# Altium footprint library CMod5_1.PcbLib: 117 footprints (part 7 of 8)
Each footprint in its own frame and in the unit in brackets; x right, y up, seen from the top. Pads: shape width x height; smd on the part's side, far side on the other; paste and mask are expansions set on the pad; w line width, h text height; cw(c..) or ccw(c..) is an arc to the next point about the centre after c.
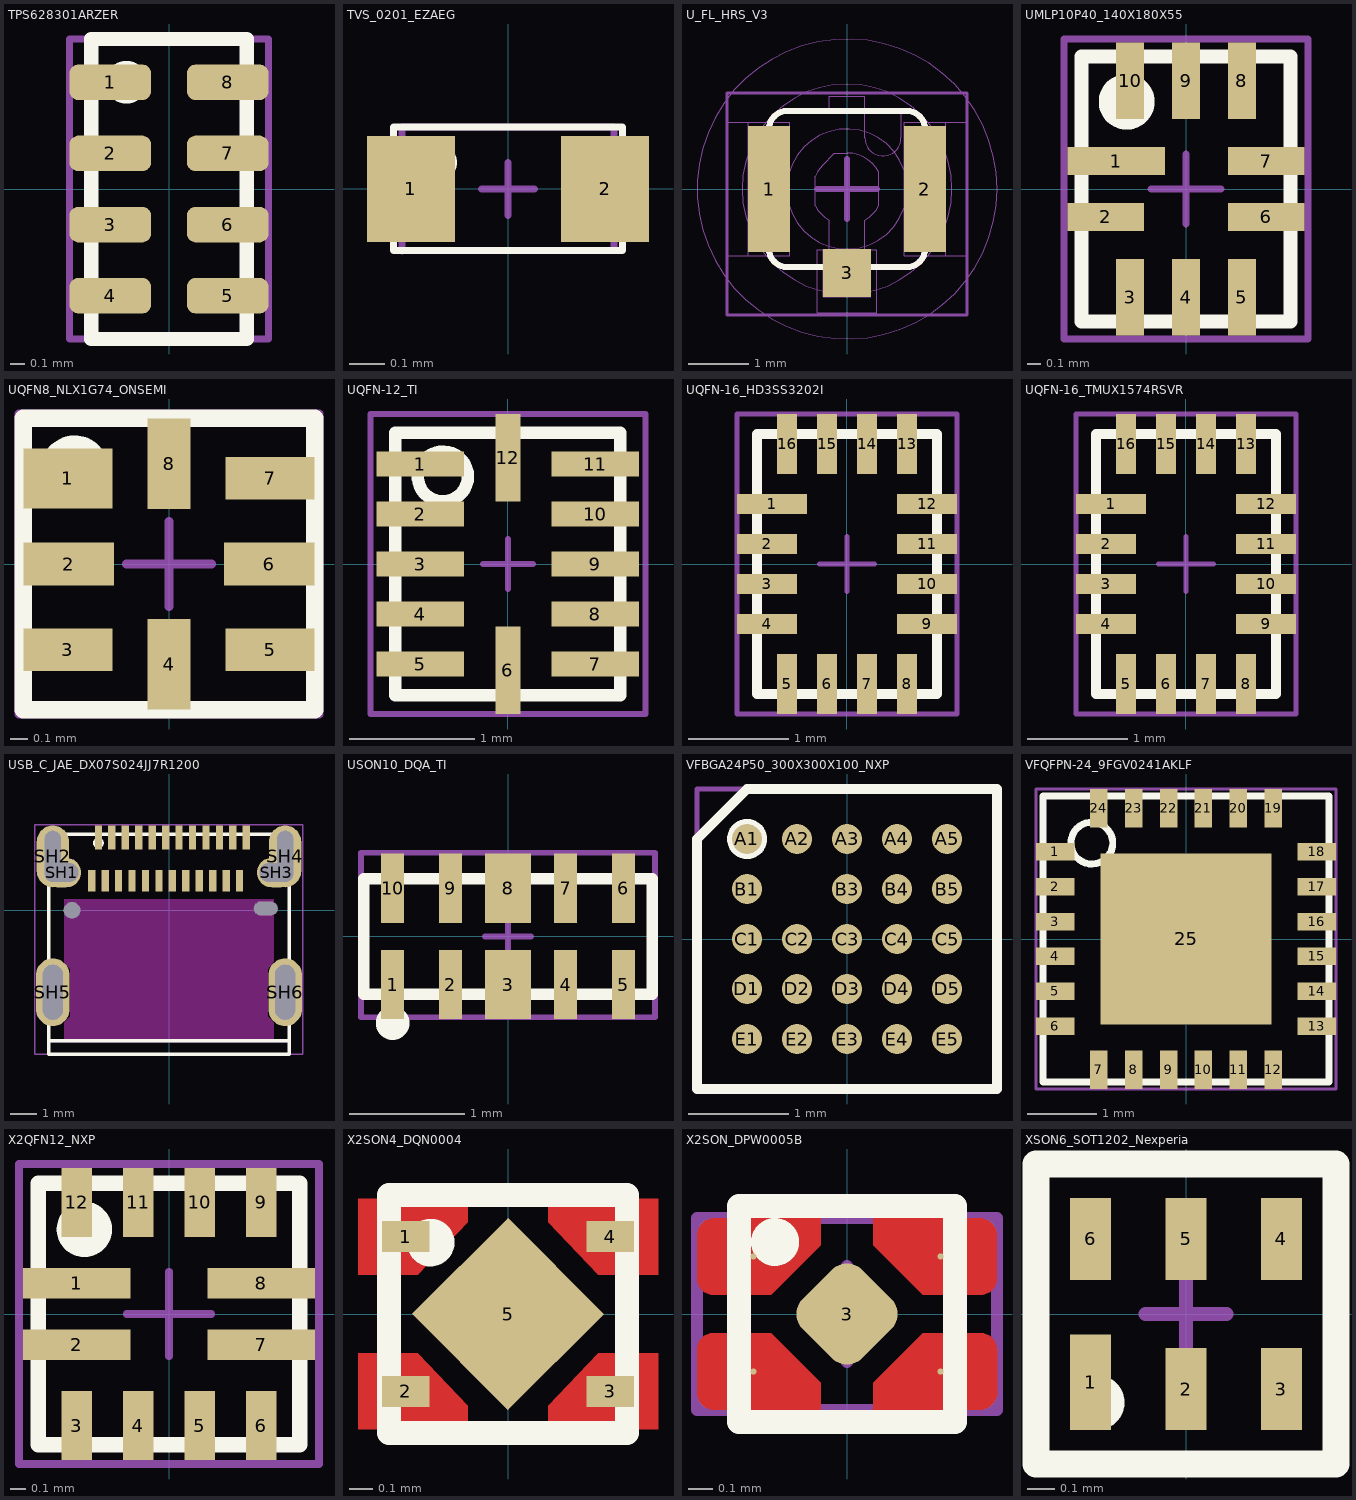
[diagram p6: the footprints below, top view; thin cyan lines are the x and y axes]

## TPS628301ARZER [mm] "WQFN-HR, 1.1x2.1x0.8mm"
height 0.8
pads (8):
  rrect50% 0.575x0.25 smd paste+0 mask+0.05: 1(-0.413,0.75) 2(-0.413,0.25) 3(-0.413,-0.25) 4(-0.413,-0.75) 5(0.413,-0.75) 6(0.413,-0.25) 7(0.413,0.25) 8(0.413,0.75)
Top Overlay:
  circle w0.15: c-0.3,0.75 r0.075
  lines w0.1: -0.546,-1.054 0.546,-1.054 0.546,1.054 -0.546,1.054 -0.546,-1.054
Top Courtyard:
  lines w0.05: -0.7,-1.054 -0.7,1.054 0.7,1.054 0.7,-1.054 -0.7,-1.054
3D body "WQFN-HR8_RZE_TEX.step": height 0.81, standoff 0, extent -0.546,-1.054 0.546,1.054

## TVS_0201_EZAEG [mm] "TVS 0201 0.04pF Panasonic EZAEG1A"
height 0.33
pads (2):
  rect 0.25x0.3 smd mask+0.05: 1(-0.275,0) 2(0.275,0)
Top Overlay:
  circle w0.1: c-0.197,0.075 r0.003
  lines w0.02: -0.325,-0.175 -0.325,0.175 0.325,0.175 0.325,-0.175 -0.325,-0.175
Top Courtyard:
  lines w0.02: -0.075,0 0.075,0 ; 0,-0.075 0,0.075 ; -0.3,-0.175 -0.3,0.175 0.3,0.175 0.3,-0.175 -0.3,-0.175
Top Designator:
3D body: height 0.26, standoff 0, extent -0.325,-0.175 0.325,0.175

## U_FL_HRS_V3 [mm] "SMD, 3-Leads, Body 2.6x2.6mm"
height 1.25
pads (3):
  rect 0.7x2.1 smd mask+0.07: 1(-1.3,0)
  rect 0.7x2.1 smd: 2(1.3,0)
  rect 0.8x0.8 smd: 3(0,-1.4)
Top Overlay:
  lines w0.1: -1.3,-1 ccw(c-1,-1) -1,-1.3 1,-1.3 ccw(c1,-1) 1.3,-1 ; -1.3,0.95 -1.55,0.95 -1.55,-0.95 -1.3,-0.95 -1.3,1 cw(c-1,1) -1,1.3 1,1.3 cw(c1,1) 1.3,1 1.3,-0.95 1.55,-0.95 1.55,0.95 1.3,0.95 ; -0.3,-1.6 -0.3,-1.3 0.3,-1.3 0.3,-1.6 -0.3,-1.6
Mechanical 4:
  circle w0.02: c0,0 r1
  circle w0.02: c0,0 r1.75
  circle w0.01: c0,0 r2.5
  lines w0.02: -0.3,1.3 -0.3,1.55 0.3,1.55 0.3,1.3 ; -0.1,0 0.1,0 ; 0,-0.1 0,0.1 ; -1.3,-1 ccw(c-1,-1) -1,-1.3 ; -1.3,-1 ccw(c-1,-1) -1,-1.3 ; -1.3,-1 -1.3,-0.9 ; -1.3,-1 -1.3,-0.9 ; -1.3,-0.9 -1.2,-0.9 ccw(c-1.2,-0.75) -1.05,-0.75 -1.05,0.75 ccw(c-1.2,0.75) -1.2,0.9 -1.3,0.9 ; -1.3,-0.9 -1.5,-0.9 -1.5,0.9 -1.3,0.9 ; -1.3,0.9 -1.3,1 ; -1.3,0.9 -1.3,1 ; -1.3,1 cw(c-1,1) -1,1.3 ; -1.3,1 cw(c-1,1) -1,1.3 ; -1,-1.3 -0.3,-1.3 ; -1,-1.3 -0.3,-1.3 ; -1,1.3 0.3,1.3 ; -1,1.3 1,1.3 ; -0.95,-1.11 -0.95,1.11 ; -0.95,-1.11 -0.95,1.11 ; -0.95,-1.11 -1.65,-1.11 -1.65,1.1 -0.95,1.11 ; -0.95,-1.11 -2,-1.11 -2,1.11 -0.95,1.11 ; -0.3,-1.3 -0.3,-0.52 cw(c0,0) -0.53,-0.281 -0.53,0.21 cw(c0,0) -0.407,0.399 -0.21,0.6 0,0.6 cw(c0,0) 0.53,0.281 0.53,-0.281 cw(c0,0) 0.3,-0.52 0.3,-1.3 ; -0.3,-1.3 -0.3,-1.55 0.3,-1.55 0.3,-1.3 ; 0.3,-1.3 1,-1.3 ; 0.3,-1.3 1,-1.3 ; 0.3,1.3 0.3,0.85 ccw(c0.6,0.85) 0.9,0.85 0.9,1.3 1,1.3 ; 0.95,-1.11 2,-1.11 2,1.11 0.95,1.11 ; 0.95,-1.11 1.65,-1.11 1.65,1.1 0.95,1.11 ; 0.95,-1.11 0.95,1.11 ; 0.95,-1.11 0.95,1.11 ; 1,-1.3 ccw(c1,-1) 1.3,-1 ; 1,-1.3 ccw(c1,-1) 1.3,-1 ; 1,1.3 cw(c1,1) 1.3,1 ; 1,1.3 cw(c1,1) 1.3,1 ; 1.3,-1 1.3,-0.9 ; 1.3,-1 1.3,-0.9 ; 1.3,-0.9 1.2,-0.9 cw(c1.2,-0.75) 1.05,-0.75 1.05,0.75 cw(c1.2,0.75) 1.2,0.9 1.3,0.9 ; 1.3,-0.9 1.5,-0.9 1.5,0.9 1.3,0.9 ; 1.3,0.9 1.3,1 ; 1.3,0.9 1.3,1 ; -0.5,-2.06 0.5,-2.06 0.5,-1.01 -0.5,-1.01 -0.5,-2.06 ; -0.4,-1.8 0.4,-1.8 0.4,-1.01 -0.4,-1.01 -0.4,-1.8
  text "Open as many layers as possible." at -0.7,0.219 h0.1
Top Courtyard:
  lines w0.05: -2,-2.1 2,-2.1 2,1.6 -2,1.6 -2,-2.1
  lines w0.1: -0.5,0 0.5,0 ; 0,-0.5 0,0.5
3D body "U_FL-R-SMT-1.stp": height 1.3, standoff 0.05, extent -1.499,-1.55 1.501,1.55

## UMLP10P40_140X180X55 [mm] "UMLP 10 pin pitch 0.4"
height 0.55
pads (10):
  rect 0.7x0.2 smd paste+0 mask+0.05: 1(-0.5,0.2)
  rect 0.55x0.2 smd paste+0 mask+0.05: 2(-0.575,-0.2) 6(0.575,-0.2) 7(0.575,0.2)
  rect 0.2x0.55 smd paste+0 mask+0.05: 3(-0.4,-0.775) 4(0,-0.775) 5(0.4,-0.775) 8(0.4,0.775) 9(0,0.775) 10(-0.4,0.775)
Top Overlay:
  circle w0.2: c-0.425,0.625 r0.1
  lines w0.1: -0.75,-0.95 -0.75,0.95 0.75,0.95 0.75,-0.95 -0.75,-0.95
Top Courtyard:
  lines w0.05: -0.25,0 0.25,0 ; 0,-0.25 0,0.25 ; -0.875,-1.075 -0.875,1.075 0.875,1.075 0.875,-1.075 -0.875,-1.075
3D body "FSUSB42UMX.stp": height 0.55, standoff 0, extent -0.75,-0.95 0.75,0.95
3D body: height 0.51, standoff 0.4, extent -0.65,0.55 -0.35,0.85

## UQFN8_NLX1G74_ONSEMI [mm] "UQFN8"
height 0.6
pads (8):
  rect 0.52x0.35 smd paste+0 mask+0.05: 1(-0.59,0.5)
  rect 0.53x0.25 smd paste+0 mask+0.05: 2(-0.585,0) 6(0.585,0)
  rect 0.52x0.25 smd paste+0 mask+0.05: 3(-0.59,-0.5) 5(0.59,-0.5) 7(0.59,0.5)
  rect 0.25x0.53 smd paste+0 mask+0.05: 4(0,-0.585) 8(0,0.585)
Top Overlay:
  circle w0.2: c-0.55,0.55 r0.1
  lines w0.1: -0.85,-0.85 -0.85,0.85 0.85,0.85 0.85,-0.85 -0.85,-0.85
Top Courtyard:
  lines w0.05: -0.25,0 0.25,0 ; 0,-0.25 0,0.25 ; -0.875,-0.875 0.875,-0.875 0.875,0.875 -0.875,0.875 -0.875,-0.875
3D body "NLX1G74MUTCG.stp": height 0.7, standoff 0, extent -0.8,-0.8 0.8,0.8
3D body: height 0.71, standoff 0.6, extent -0.625,0.3 -0.325,0.6

## UQFN-12_TI [mm] "UQFN-12 from Texas Instruments"
height 0.55
pads (12):
  rect 0.7x0.2 smd paste+0 mask+0.05: 1(-0.7,0.8) 2(-0.7,0.4) 3(-0.7,0) 4(-0.7,-0.4) 5(-0.7,-0.8) 7(0.7,-0.8) 8(0.7,-0.4) 9(0.7,0) 10(0.7,0.4) 11(0.7,0.8)
  rect 0.2x0.7 smd paste+0 mask+0.05: 6(0,-0.85) 12(0,0.85)
Top Overlay:
  circle w0.1: c-0.521,0.7 r0.2
  lines w0.1: -0.9,-1.05 0.9,-1.05 0.9,1.05 -0.9,1.05 -0.9,-1.05
Top Courtyard:
  lines w0.05: -0.2,0 0.2,0 ; 0,-0.2 0,0.2 ; -1.1,-1.2 1.1,-1.2 1.1,1.2 -1.1,1.2 -1.1,-1.2
Top Designator:
3D body "TXB0104RUTR--3DModel-STEP-56544.STEP": height 0.55, standoff 0, extent -0.85,-1 0.85,1

## UQFN-16_HD3SS3202I [mm] "UQFN-16"
height 0.55
pads (16):
  rect 0.7x0.2 smd paste+0 mask+0.05: 1(-0.75,0.6)
  rect 0.6x0.2 smd paste+0 mask+0.05: 2(-0.8,0.2) 3(-0.8,-0.2) 4(-0.8,-0.6) 9(0.8,-0.6) 10(0.8,-0.2) 11(0.8,0.2) 12(0.8,0.6)
  rect 0.2x0.6 smd paste+0 mask+0.05: 5(-0.6,-1.2) 6(-0.2,-1.2) 7(0.2,-1.2) 8(0.6,-1.2) 13(0.6,1.2) 14(0.2,1.2) 15(-0.2,1.2) 16(-0.6,1.2)
Top Overlay:
  lines w0.1: -0.9,-1.3 -0.9,1.3 0.9,1.3 0.9,-1.3 -0.9,-1.3 ; -0.8,0.6 cw(c-0.75,0.6) -0.7,0.6 cw(c-0.75,0.6) -0.8,0.6
Top Courtyard:
  lines w0.05: -0.275,0 0.275,0 ; 0,-0.275 0,0.275 ; -1.1,-1.5 1.1,-1.5 1.1,1.5 -1.1,1.5 -1.1,-1.5
3D body "HD3SS3202IRSVR.stp": height 0.65, standoff 0, extent -0.9,-1.3 0.9,1.3
3D body: height 0.66, standoff 0.56, extent -0.85,0.5 -0.65,0.7

## UQFN-16_TMUX1574RSVR [mm] "UQFN-16"
height 0.55
pads (16):
  rect 0.7x0.2 smd paste+0 mask+0.05: 1(-0.75,0.6)
  rect 0.6x0.2 smd paste+0 mask+0.05: 2(-0.8,0.2) 3(-0.8,-0.2) 4(-0.8,-0.6) 9(0.8,-0.6) 10(0.8,-0.2) 11(0.8,0.2) 12(0.8,0.6)
  rect 0.2x0.6 smd paste+0 mask+0.05: 5(-0.6,-1.2) 6(-0.2,-1.2) 7(0.2,-1.2) 8(0.6,-1.2) 13(0.6,1.2) 14(0.2,1.2) 15(-0.2,1.2) 16(-0.6,1.2)
Top Overlay:
  lines w0.1: -0.9,-1.3 0.9,-1.3 0.9,1.3 -0.9,1.3 -0.9,-1.3 ; -0.8,0.6 ccw(c-0.75,0.6) -0.7,0.6 ccw(c-0.75,0.6) -0.8,0.6
Top Courtyard:
  lines w0.05: -0.275,0 0.275,0 ; 0,-0.275 0,0.275 ; -1.1,-1.5 -1.1,1.5 1.1,1.5 1.1,-1.5 -1.1,-1.5
3D body: height 0.66, standoff 0.56, extent -0.85,0.5 -0.65,0.7
3D body "HD3SS3202IRSVR.stp": height 0.65, standoff 0, extent -0.9,-1.3 0.9,1.3

## USB_C_JAE_DX07S024JJ7R1200 [mm] "USB-C (USB TYPE-C) USB 3.2 Gen 2 (USB 3.1 Gen 2, Superspeed + (USB 3.1)) Receptacle Connector 24 Position Surface Mount, Right Angle; Through Hole"
height 3.14
pads (32):
  rect 0.27x0.9 smd paste+0 mask+0.05: A1(-2.625,2.7) A2(-2.125,2.7) A3(-1.625,2.7) A4(-1.125,2.7) A5(-0.625,2.7) A6(-0.125,2.7) A7(0.375,2.7) A8(0.875,2.7) A9(1.375,2.7) A10(1.875,2.7) A11(2.375,2.7) A12(2.875,2.7)
  rect 0.27x0.8 smd paste+0 mask+0.05: B1(2.625,1.1) B2(2.125,1.1) B3(1.625,1.1) B4(1.125,1.1) B5(0.625,1.1) B6(0.125,1.1) B7(-0.375,1.1) B8(-0.875,1.1) B9(-1.375,1.1) B10(-1.875,1.1) B11(-2.375,1.1) B12(-2.875,1.1)
  oval 1.45x1.1 hole 0.7 slot 1.25 at 0 deg: SH1(-3.995,1.4) SH3(3.995,1.4)
  oval 1.2x2.3 hole 0.6 slot 1.9 at 90 deg: SH2(-4.32,2) SH4(4.32,2)
  oval 1.258x2.516 hole 0.75 slot 2.05 at 90 deg: SH5(-4.32,-3.05) SH6(4.32,-3.05)
  round 0 hole 0.63 unplated: SH7(-3.6,0)
  round 0 hole 0.5 slot 0.88 at 0 deg unplated: SH8(3.6,0.065)
Top Overlay:
  circle w0.2: c-2.625,2.5 r0.1
  lines w0.127: -4.47,-4.5 -4.47,-4.85 ; 4.47,-4.5 4.47,-4.85 ; -4.47,-4.85 4.47,-4.85 ; -4.47,-4.85 -4.47,-5.35 4.47,-5.35 4.47,-4.85 ; -4.47,-4.85 -4.47,2.82 4.47,2.82 4.47,-4.85
Top Solder:
  drawing of 2 lines, arcs and shapes, not listed
Keep-Out Layer:
  region: 3.9,-1.915 3.67,-2.2 3.67,-3.94 3.9,-4.185 3.9,-4.85 -3.9,-4.85 -3.9,-4.185 -3.67,-3.94 -3.67,-2.2 -3.9,-1.94 -3.9,0.4 3.9,0.4
Mechanical 1:
  lines w0.001: -4.62,1.35 ccw(c-4.32,1.35) -4.32,1.05 -3.67,1.05 ccw(c-3.67,1.35) -3.37,1.35 -3.37,1.45 ccw(c-3.67,1.45) -3.67,1.75 -4.02,1.75 -4.02,2.65 ccw(c-4.32,2.65) -4.62,2.65 -4.62,1.35 ; 3.37,1.35 ccw(c3.67,1.35) 3.67,1.05 4.32,1.05 ccw(c4.32,1.35) 4.62,1.35 4.62,2.65 ccw(c4.32,2.65) 4.02,2.65 4.02,1.75 3.67,1.75 ccw(c3.67,1.45) 3.37,1.45 3.37,1.35
Mechanical 2:
  lines w0.127: -4.47,-4.85 4.47,-4.85
  text "PCB EDGE" at -4.987,-4.85 h0.41
Top Courtyard:
  lines w0.05: -5,-5.35 -5,3.175 4.975,3.175 4.975,-5.35 -5,-5.35
3D body "K3D-DX07S024JJ7-V1_JAE_Proprietary.step": height 3.17, standoff -1.2, extent -4.47,-5.35 4.47,2.82

## USON10_DQA_TI [mm] "USON10"
height 0.55
pads (10):
  rect 0.2x0.6 smd paste+0 mask+0.05: 1(-1,-0.417) 2(-0.5,-0.417) 4(0.5,-0.417) 5(1,-0.417) 6(1,0.417) 7(0.5,0.417) 9(-0.5,0.417) 10(-1,0.417)
  rect 0.4x0.6 smd paste+0 mask+0.05: 3(0,-0.417) 8(0,0.417)
Top Overlay:
  circle w0.254: c-1,-0.75 r0.019
  lines w0.1: -1.25,-0.5 1.25,-0.5 1.25,0.5 -1.25,0.5 -1.25,-0.5
Top Courtyard:
  lines w0.05: -1.25,0.725 -1.175,0.725 ; -0.2,0 0.2,0 ; 0,-0.2 0,0.2 ; -1.275,-0.7 -1.275,0.725 1.275,0.725 1.275,-0.7 -1.275,-0.7
Top Designator:
3D body "TPD4E05U06DQAR.stp": height 0.55, standoff 0.02, extent -1.25,-0.5 1.25,0.5

## VFBGA24P50_300X300X100_NXP [mm]
height 0.4
pads (24):
  round 0.3 smd paste-2539.97 mask-2539.97: A1(-1,1) A2(-0.5,1) A3(0,1) A4(0.5,1) A5(1,1) B1(-1,0.5) B3(0,0.5) B4(0.5,0.5) B5(1,0.5) C1(-1,0) C2(-0.5,0) C3(0,0) C4(0.5,0) C5(1,0) D1(-1,-0.5) D2(-0.5,-0.5) D3(0,-0.5) D4(0.5,-0.5) D5(1,-0.5) E1(-1,-1) E2(-0.5,-1) E3(0,-1) E4(0.5,-1) E5(1,-1)
Top Overlay:
  circle w0.2: c-1,1 r0.1
  lines w0.1: -1.5,-1.5 -1.5,1 -1,1.5 1.5,1.5 1.5,-1.5 -1.5,-1.5
Top Paste:
  circle w0.15: c1,-1 r0.075
  circle w0.15: c0.5,-1 r0.075
  circle w0.15: c0,-1 r0.075
  circle w0.15: c-0.5,-1 r0.075
  circle w0.15: c-1,-1 r0.075
  circle w0.15: c1,-0.5 r0.075
  circle w0.15: c0.5,-0.5 r0.075
  circle w0.15: c0,-0.5 r0.075
  circle w0.15: c-0.5,-0.5 r0.075
  circle w0.15: c-1,-0.5 r0.075
  circle w0.15: c1,0 r0.075
  circle w0.15: c0.5,0 r0.075
  circle w0.15: c0,0 r0.075
  circle w0.15: c-0.5,0 r0.075
  circle w0.15: c-1,0 r0.075
  circle w0.15: c1,0.5 r0.075
  circle w0.15: c0.5,0.5 r0.075
  circle w0.15: c0,0.5 r0.075
  circle w0.15: c-1,0.5 r0.075
  circle w0.15: c1,1 r0.075
  circle w0.15: c0.5,1 r0.075
  circle w0.15: c0,1 r0.075
  circle w0.15: c-0.5,1 r0.075
  circle w0.15: c-1,1 r0.075
Top Solder:
  circle w0.2: c1,-1 r0.1
  circle w0.2: c0.5,-1 r0.1
  circle w0.2: c0,-1 r0.1
  circle w0.2: c-0.5,-1 r0.1
  circle w0.2: c-1,-1 r0.1
  circle w0.2: c1,-0.5 r0.1
  circle w0.2: c0.5,-0.5 r0.1
  circle w0.2: c0,-0.5 r0.1
  circle w0.2: c-0.5,-0.5 r0.1
  circle w0.2: c-1,-0.5 r0.1
  circle w0.2: c1,0 r0.1
  circle w0.2: c0.5,0 r0.1
  circle w0.2: c0,0 r0.1
  circle w0.2: c-0.5,0 r0.1
  circle w0.2: c-1,0 r0.1
  circle w0.2: c1,0.5 r0.1
  circle w0.2: c0.5,0.5 r0.1
  circle w0.2: c0,0.5 r0.1
  circle w0.2: c-1,0.5 r0.1
  circle w0.2: c1,1 r0.1
  circle w0.2: c0.5,1 r0.1
  circle w0.2: c0,1 r0.1
  circle w0.2: c-0.5,1 r0.1
  circle w0.2: c-1,1 r0.1
Top Courtyard:
  lines w0.05: -1.5,-1.5 -1.5,1.5 1.5,1.5 1.5,-1.5 -1.5,-1.5
3D body: height 0.95, standoff 0.85, extent -1.315,0.915 -0.915,1.315
3D body "PCAL6416AEVJ.stp": height 1, standoff 0, extent -1.5,-1.5 1.5,1.5

## VFQFPN-24_9FGV0241AKLF [mm] "VFQFPN-24"
height 0.9
pads (25):
  rect 0.55x0.25 smd paste+0 mask+0.05: 1(-1.875,1.25) 2(-1.875,0.75) 3(-1.875,0.25) 4(-1.875,-0.25) 5(-1.875,-0.75) 6(-1.875,-1.25) 13(1.875,-1.25) 14(1.875,-0.75) 15(1.875,-0.25) 16(1.875,0.25) 17(1.875,0.75) 18(1.875,1.25)
  rect 0.25x0.55 smd paste+0 mask+0.05: 7(-1.25,-1.875) 8(-0.75,-1.875) 9(-0.25,-1.875) 10(0.25,-1.875) 11(0.75,-1.875) 12(1.25,-1.875) 19(1.25,1.875) 20(0.75,1.875) 21(0.25,1.875) 22(-0.25,1.875) 23(-0.75,1.875) 24(-1.25,1.875)
  rect 2.45x2.45 smd paste-0.129 mask+0.07: 25(0,0)
Top Overlay:
  circle w0.1: c-1.35,1.375 r0.3
  lines w0.1: -2.05,-2.05 -2.05,2.05 2.05,2.05 2.05,-2.05 -2.05,-2.05
Top Courtyard:
  lines w0.05: -0.325,0 0.325,0 ; 0,-0.325 0,0.325 ; -2.15,-2.15 -2.15,2.15 2.15,2.15 2.15,-2.15 -2.15,-2.15
Top Designator:
3D body: height 0.99, standoff 0.89, extent -1.75,1.25 -1.25,1.75
3D body "BD8P250MUF-CE2.stp": height 1, standoff 0, extent -2.05,-2.05 2.05,2.05

## X2QFN12_NXP [mm] "X2QFN12 NXP"
height 0.4
pads (12):
  rect 0.7x0.2 smd paste+0 mask+0.05: 1(-0.6,0.2) 2(-0.6,-0.2) 7(0.6,-0.2) 8(0.6,0.2)
  rect 0.2x0.45 smd paste+0 mask+0.05: 3(-0.6,-0.725) 4(-0.2,-0.725) 5(0.2,-0.725) 6(0.6,-0.725) 9(0.6,0.725) 10(0.2,0.725) 11(-0.2,0.725) 12(-0.6,0.725)
Top Overlay:
  lines w0.1: -0.85,-0.85 -0.85,0.85 0.85,0.85 0.85,-0.85 -0.85,-0.85
  lines w0.2: -0.63,0.55 ccw(c-0.55,0.55) -0.47,0.55 ccw(c-0.55,0.55) -0.63,0.55
Top Courtyard:
  lines w0.05: -0.275,0 0.275,0 ; 0,-0.275 0,0.275 ; -0.975,-0.975 -0.975,0.975 0.975,0.975 0.975,-0.975 -0.975,-0.975
3D body "PTN5150AHXMP.stp": height 0.5, standoff 0, extent -0.8,-0.8 0.8,0.8
3D body: height 0.51, standoff 0.4, extent -0.675,0.4 -0.375,0.7

## X2SON4_DQN0004 [mm] "X2SON 1.05 x 1.05 x 0.4mm"
height 0.4
pads (5):
  rect 0.2x0.13 smd paste-1 mask+0: 1(-0.43,0.325) 2(-0.43,-0.325) 3(0.43,-0.325) 4(0.43,0.325)
  rect 0.57x0.57 smd rot 135 paste-0.06 mask-0.05: 5(0,0)
Top Layer:
  region: 0.63,-0.485 0.17,-0.485 0.17,-0.385 0.38,-0.165 0.63,-0.165
  region: -0.63,-0.485 -0.17,-0.485 -0.17,-0.385 -0.38,-0.165 -0.63,-0.165
  region: -0.63,0.485 -0.17,0.485 -0.17,0.385 -0.38,0.165 -0.63,0.165
  region: 0.63,0.485 0.17,0.485 0.17,0.385 0.38,0.165 0.63,0.165
Top Overlay:
  circle w0.1: c-0.325,0.3 r0.05
  lines w0.1: -0.5,-0.5 0.5,-0.5 0.5,0.5 -0.5,0.5 -0.5,-0.5
Top Courtyard:
  lines w0.05: -0.175,0 0.175,0 ; 0,-0.2 0,0.2 ; -0.5,-0.5 0.5,-0.5 0.5,0.5 -0.5,0.5 -0.5,-0.5
Top Designator:
3D body "TPS7A2015PDQNR.STEP": height 0.4, standoff 0, extent -0.5,-0.5 0.5,0.5
3D body: height 0.4, standoff 0.3, extent -0.35,0.15 -0.15,0.35

## X2SON_DPW0005B [mm] "X2SON_DPW0005B, 0.8 × 0.8 × 0.4mm"
height 0.4
pads (5):
  round 0.025 smd paste-0.05 mask-0.05: 1(-0.39,0.24) 2(-0.39,-0.24) 4(0.39,-0.24) 5(0.39,0.24)
  rrect50% 0.35x0.35 smd rot 45 paste-0.06 mask-0.05: 3(0,0)
Top Layer:
  region: 0.55,0.4 0.109,0.4 0.109,0.286 0.315,0.08 0.555,0.08 0.569,0.08 0.594,0.091 0.614,0.11 0.625,0.136 0.625,0.15 0.625,0.325 0.625,0.34 0.613,0.367 0.592,0.389 0.565,0.4
  region: -0.55,-0.4 -0.11,-0.4 -0.11,-0.285 -0.315,-0.08 -0.555,-0.08 -0.569,-0.08 -0.595,-0.091 -0.614,-0.11 -0.625,-0.136 -0.625,-0.15 -0.625,-0.325 -0.625,-0.34 -0.614,-0.367 -0.592,-0.389 -0.565,-0.4
  region: -0.55,0.4 -0.109,0.4 -0.109,0.286 -0.315,0.08 -0.555,0.08 -0.569,0.08 -0.594,0.091 -0.614,0.11 -0.625,0.136 -0.625,0.15 -0.625,0.325 -0.625,0.34 -0.613,0.367 -0.592,0.389 -0.565,0.4
  region: 0.55,-0.4 0.11,-0.4 0.11,-0.285 0.315,-0.08 0.555,-0.08 0.569,-0.08 0.595,-0.091 0.614,-0.11 0.625,-0.136 0.625,-0.15 0.625,-0.325 0.625,-0.34 0.614,-0.367 0.592,-0.389 0.565,-0.4
Top Overlay:
  circle w0.1: c-0.3,0.3 r0.05
  lines w0.1: -0.45,-0.45 0.45,-0.45 0.45,0.45 -0.45,0.45 -0.45,-0.45
Top Courtyard:
  lines w0.05: -0.175,0 0.175,0 ; 0,-0.2 0,0.2 ; -0.625,-0.4 0.625,-0.4 0.625,0.4 -0.625,0.4 -0.625,-0.4
Top Designator:
3D body: height 0.4, standoff 0.3, extent -0.35,0.15 -0.15,0.35
3D body "SN74LVC1G17DPWR.stp": height 0.4, standoff 0, extent -0.4,-0.4 0.4,0.4

## XSON6_SOT1202_Nexperia [mm]
height 0.35
pads (6):
  rect 0.15x0.35 smd paste+0 mask+0.05: 1(-0.35,-0.25)
  rect 0.15x0.3 smd paste+0 mask+0.05: 2(0,-0.275) 3(0.35,-0.275) 4(0.35,0.275) 5(0,0.275) 6(-0.35,0.275)
Top Overlay:
  lines w0.1: -0.55,-0.55 -0.55,0.55 0.55,0.55 0.55,-0.55 -0.55,-0.55 ; -0.325,-0.375 cw(c-0.325,-0.325) -0.325,-0.275 cw(c-0.325,-0.325) -0.325,-0.375
Top Courtyard:
  lines w0.05: -0.15,0 0.15,0 ; 0,-0.15 0,0.15 ; -0.55,-0.55 0.55,-0.55 0.55,0.55 -0.55,0.55 -0.55,-0.55
3D body "XSON6_SOT1202_Nexperia.step": height 0.32, standoff 0, extent -0.5,-0.5 0.5,0.5
3D body: height 0.33, standoff 0.23, extent -0.45,-0.4 -0.25,-0.2